# EAGLE library part 691701500010B (library Terminal_Blocks_Connectors_rev15e)
WR-TBL Serie 7015 – 5.08mm Open Vertical PCB Header, 10 Pins=>Code : Con_TBL_Pluggable_5.08_PCB_THR_691701500010B <http://katalog.we-online.de/media/images/eican/Con_TBL_Pluggable_5.08_PCB_THR_6917015000xxB_pf2.jpg> Details see: http://katalog.we-online.de/en/em/691_701_500_0xxB Created 2014-06-23, Karrer Zheng 2014 (C) Würth Elektronik
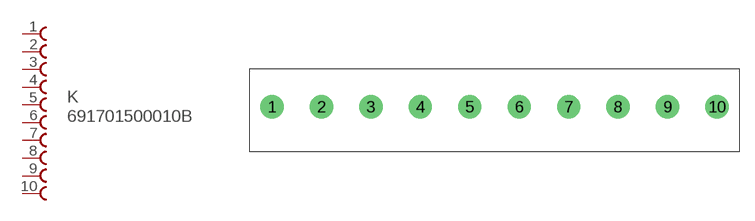
[diagram p357: symbol with the pads of 691701500010B; footprint 691701500010B]

Designator prefix K

## 691701500010B  [691701500010B]
1  1  pas
2  2  pas
3  3  pas
4  4  pas
5  5  pas
6  6  pas
7  7  pas
8  8  pas
9  9  pas
10  10  pas

## Footprint 691701500010B (pad centres in mm)
WR-TBL Serie 7015 – 5.08mm Open Vertical PCB Header, 10 Pins
drill 1.6: 1 -22.86,0; 2 -17.78,0; 3 -12.7,0; 4 -7.62,0; 5 -2.54,0; 6 2.54,0; 7 7.62,0; 8 12.7,0; 9 17.78,0; 10 22.86,0